# Altium schematic symbol library Dual_XOR.SchLib: 1 symbol
Pins are listed as number, name and electrical type; pins without a type are passive.

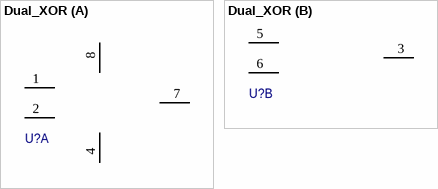
[diagram p0: symbol Dual_XOR]

## Dual_XOR
designator U?
part A pins: 1 1A, 2 1B, 4 GND, 7 1Y, 8 VCC
part B pins: 3 2Y, 5 2A, 6 2B